# Altium footprint library ICs_And_Semiconductors.PcbLib: 2 footprints
Each footprint in its own frame and in the unit in brackets; x right, y up, seen from the top. Pads: shape width x height; smd on the part's side, far side on the other; paste and mask are expansions set on the pad; w line width, h text height; cw(c..) or ccw(c..) is an arc to the next point about the centre after c.
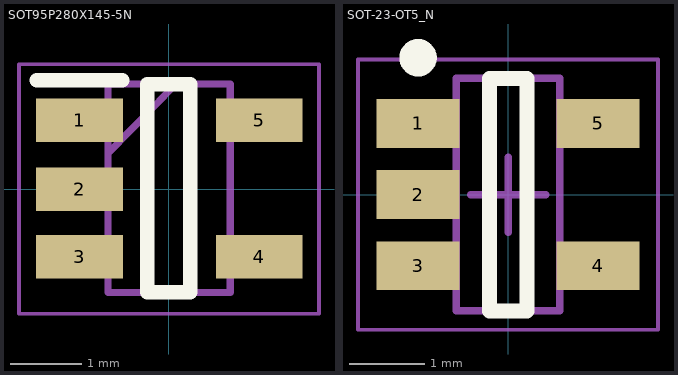
[diagram p0: the footprints below, top view; thin cyan lines are the x and y axes]

## SOT95P280X145-5N [mil]
pads (5):
  rect 48x24 smd: 1(-49.21,38) 2(-49.21,0) 3(-49.21,-37.4) 4(50,-37.4) 5(50,38)
Top Overlay:
  lines w8: -72.83,60 -25.59,60 ; -11.81,-57.09 -11.81,58 12,58 12,-57.09 -11.81,-57.09
Courtyard Bottom:
  lines w2: -82.68,-68.9 -82.68,69 83,69 83,-68.9 -82.68,-68.9
  lines w4: -33.46,20 4,58 ; -33.46,-57.09 -33.46,58 34,58 34,-57.09 -33.46,-57.09

## SOT-23-OT5_N [mm] "SOT23, 5-Leads, Body 2.9x1.6mm, Pitch 0.95mm, Lead Span 2.7mm, IPC Medium Density"
height 1.45
pads (5):
  rect 1.1x0.65 smd: 1(-1.2,0.95) 2(-1.2,0) 3(-1.2,-0.95) 4(1.2,-0.95) 5(1.2,0.95)
Top Overlay:
  circle w0.25: c-1.2,1.825 r0.125
  lines w0.2: -0.25,-1.55 -0.25,1.55 0.25,1.55 0.25,-1.55 -0.25,-1.55
Assembly Text Top:
  text ".Designator" at 0.25,-0.696 h1
Assembly Top:
  lines w0.1: -0.687,-1.175 -1.25,-1.175 -1.25,-0.725 -0.687,-0.725 ; -0.687,-0.225 -1.25,-0.225 -1.25,0.225 -0.687,0.225 ; -0.687,0.725 -1.25,0.725 -1.25,1.175 -0.687,1.175 ; 0.687,-1.175 1.25,-1.175 1.25,-0.725 0.687,-0.725 ; 0.687,0.725 1.25,0.725 1.25,1.175 0.687,1.175 ; -0.687,-1.55 0.687,-1.55 0.687,1.55 -0.687,1.55 -0.687,-1.55
Courtyard Top:
  lines w0.05: -2,-1.8 2,-1.8 2,1.8 -2,1.8 -2,-1.8
  lines w0.1: -0.5,0 0.5,0 ; 0,-0.5 0,0.5
3D body: height 1.1, standoff 0, extent -1.25,-1.5 1.25,1.5